# Altium schematic symbol library usb_uart_converter.SchLib: 13 symbols
Pins are listed as number, name and electrical type; pins without a type are passive.

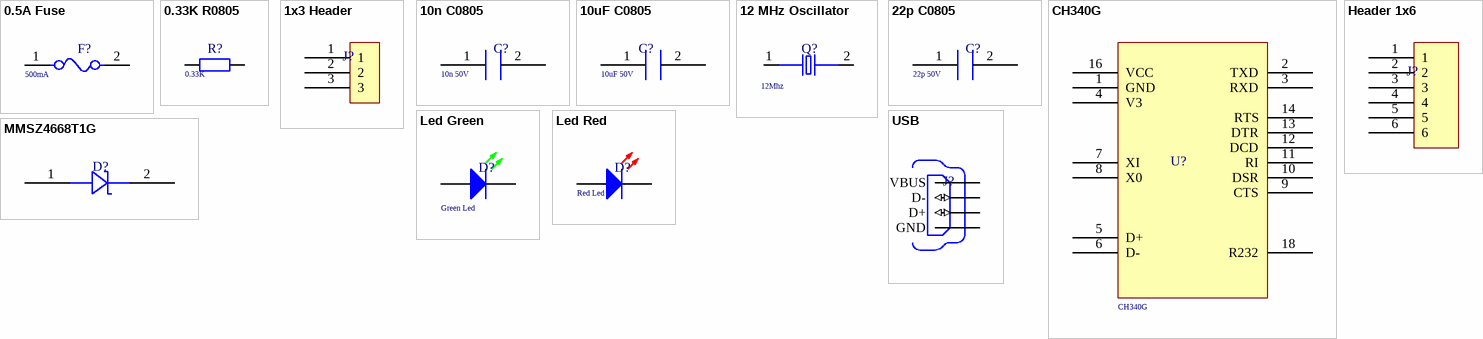
[diagram p0: symbols 0.5A Fuse to USB]

## 0.5A Fuse
designator F?  value 500mA  (hidden comment: *)
footprint FUSE
pins: 1, 2

## 0.33K R0805
designator R?  value 0.33K  (hidden comment: *)
footprint RES 0805
pins: 1, 2

## 1x3 Header
designator J?  (value not drawn)
footprint 1x3 HEADER
pins: 1, 2, 3

## 10n C0805
designator C?  value 10n 50V  (hidden comment: *)
footprint CAP 0805
pins: 1 9, 2 8

## 10uF C0805
designator C?  value 10uF 50V  (hidden comment: *)
footprint CAP 0805
pins: 1 9, 2 8

## 12 MHz Oscillator
designator Q?  value 12Mhz  (hidden comment: *)
footprint OSCILLATOR
pins: 1, 2

## 22p C0805
designator C?  value 22p 50V  (hidden comment: *)
footprint CAP 0805
pins: 1 9, 2 8

## CH340G
designator U?  Name: CH340G  (hidden comment: *)
footprint SOP-16
pins: 1 GND, 2 TXD, 3 RXD, 4 V3, 5 D+, 6 D-, 7 XI, 8 X0, 9 CTS, 10 DSR, 11 RI, 12 DCD, 13 DTR, 14 RTS, 16 VCC, 18 R232

## Header 1x6
designator J?  (value not drawn)
footprint 1X6 HEADER
pins: 1, 2, 3, 4, 5, 6

## Led Green
designator D?  Name: Green Led  (hidden comment: *)
footprint LED GREEN 0805
pins: 1 A, 2 K

## Led Red
designator D?  Name: Red Led  (hidden comment: *)
footprint LED RED 0805
pins: 1 A, 2 K

## MMSZ4668T1G
designator D?  (value not drawn)
footprint SOD-123
pins: 1 12, 2 11

## USB
designator J?  (value not drawn)
footprint USB TYPE A
pins: 1 VBUS (power), 2 D- (io), 3 D+ (io), 4 GND (power)